# EAGLE library part BQ24072TRGTR_DEV (library Blizzard_Library)
IC LI-ION CHARGE MGMT 16QFN 296-27328-1-ND
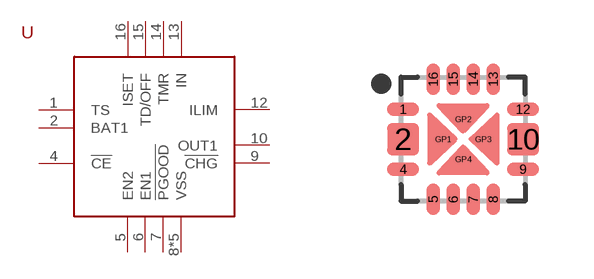
[diagram p3: symbol with the pads of QFN50P300X300X100-17T168; footprint QFN50P300X300X100-17T168]

Designator prefix U

## BQ24072TRGTR_DEVBQ24072TRGTR (PN: BQ24072TRGTR)  [QFN50P300X300X100-17T168]
1  TS
2  BAT1
4  !CE
5  EN2
6  EN1
7  !PGOOD
8  VSS
9  !CHG
10  OUT1
12  ILIM
13  IN
14  TMR
15  TD/OFF
16  ISET
GP1  VSS
GP2  VSS
GP3  VSS
GP4  VSS

## Footprint QFN50P300X300X100-17T168 (pad centres in mm)
16-QFN, 0.50 mm pitch, 3.00 X 3.00 X 1.00 mm body, 1.68 X 1.68 mm thermal pad 16-pin QFN package with 0.50 mm pitch with body size 3.00 X 3.00 X 1.00 mm and thermal pad size 1.68 X 1.68 mm
smd 0.8 x 0.34: 1 -1.5,0.75; 4 -1.5,-0.75; 9 1.5,-0.75; 12 1.5,0.75
smd 0.8 x 0.8: 2 -1.5,0; 10 1.5,0
smd 0.34 x 0.8: 5 -0.75,-1.5; 6 -0.25,-1.5; 7 0.25,-1.5; 8 0.75,-1.5; 13 0.75,1.5; 14 0.25,1.5; 15 -0.25,1.5; 16 -0.75,1.5
smd 0.3 x 0.3: GP1 -0.5,0; GP2 0,0.5; GP3 0.5,0; GP4 0,-0.5